# Altium footprint library Cin.PcbLib: 1 footprints
Each footprint in its own frame and in the unit in brackets; x right, y up, seen from the top. Pads: shape width x height; smd on the part's side, far side on the other; paste and mask are expansions set on the pad; w line width, h text height; cw(c..) or ccw(c..) is an arc to the next point about the centre after c.
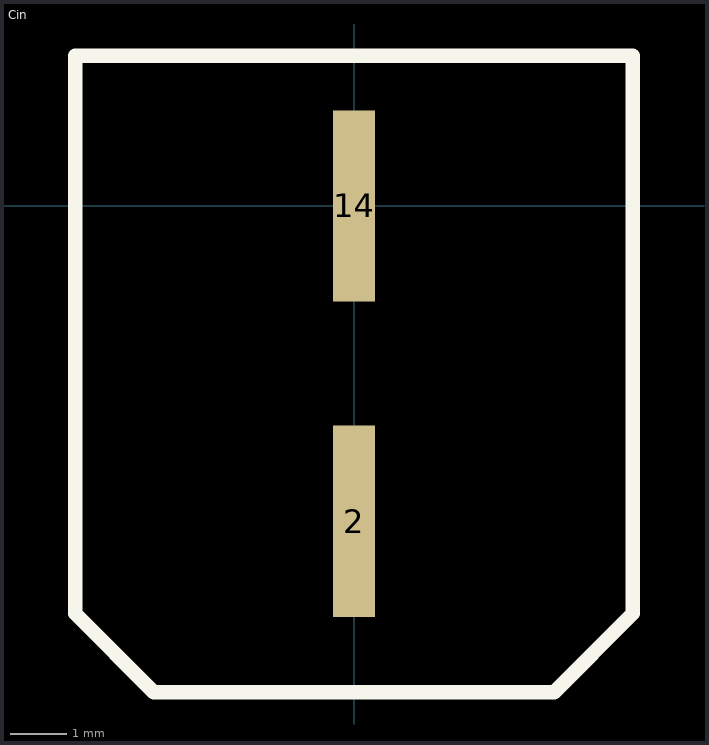
[diagram p0: the footprint, top view; thin cyan lines are the x and y axes]

## Cin [mm]
pads (2):
  rect 0.75x3.4 smd: 2(0,-5.6) 14(0,0)
Top Overlay:
  lines w0.254: -4.953,-7.239 -4.953,2.667 4.953,2.667 4.953,-7.239 3.556,-8.636 -3.556,-8.636 -4.953,-7.239
3D body: height 0.25, standoff 0, extent -1.778,2.032 -1.778,2.032
3D body: height 0.25, standoff 0, extent 1.016,-3.048 1.016,-3.048
3D body "User Library-SMD Polymer Aluminum Electrolytic Capacitors E7.step": height 6.9, standoff -0.05, extent -4.191,-7.167 4.109,1.833